# Altium footprint library OpBots.PcbLib: 39 footprints (part 1 of 3)
Each footprint in its own frame and in the unit in brackets; x right, y up, seen from the top. Pads: shape width x height; smd on the part's side, far side on the other; paste and mask are expansions set on the pad; w line width, h text height; cw(c..) or ccw(c..) is an arc to the next point about the centre after c.
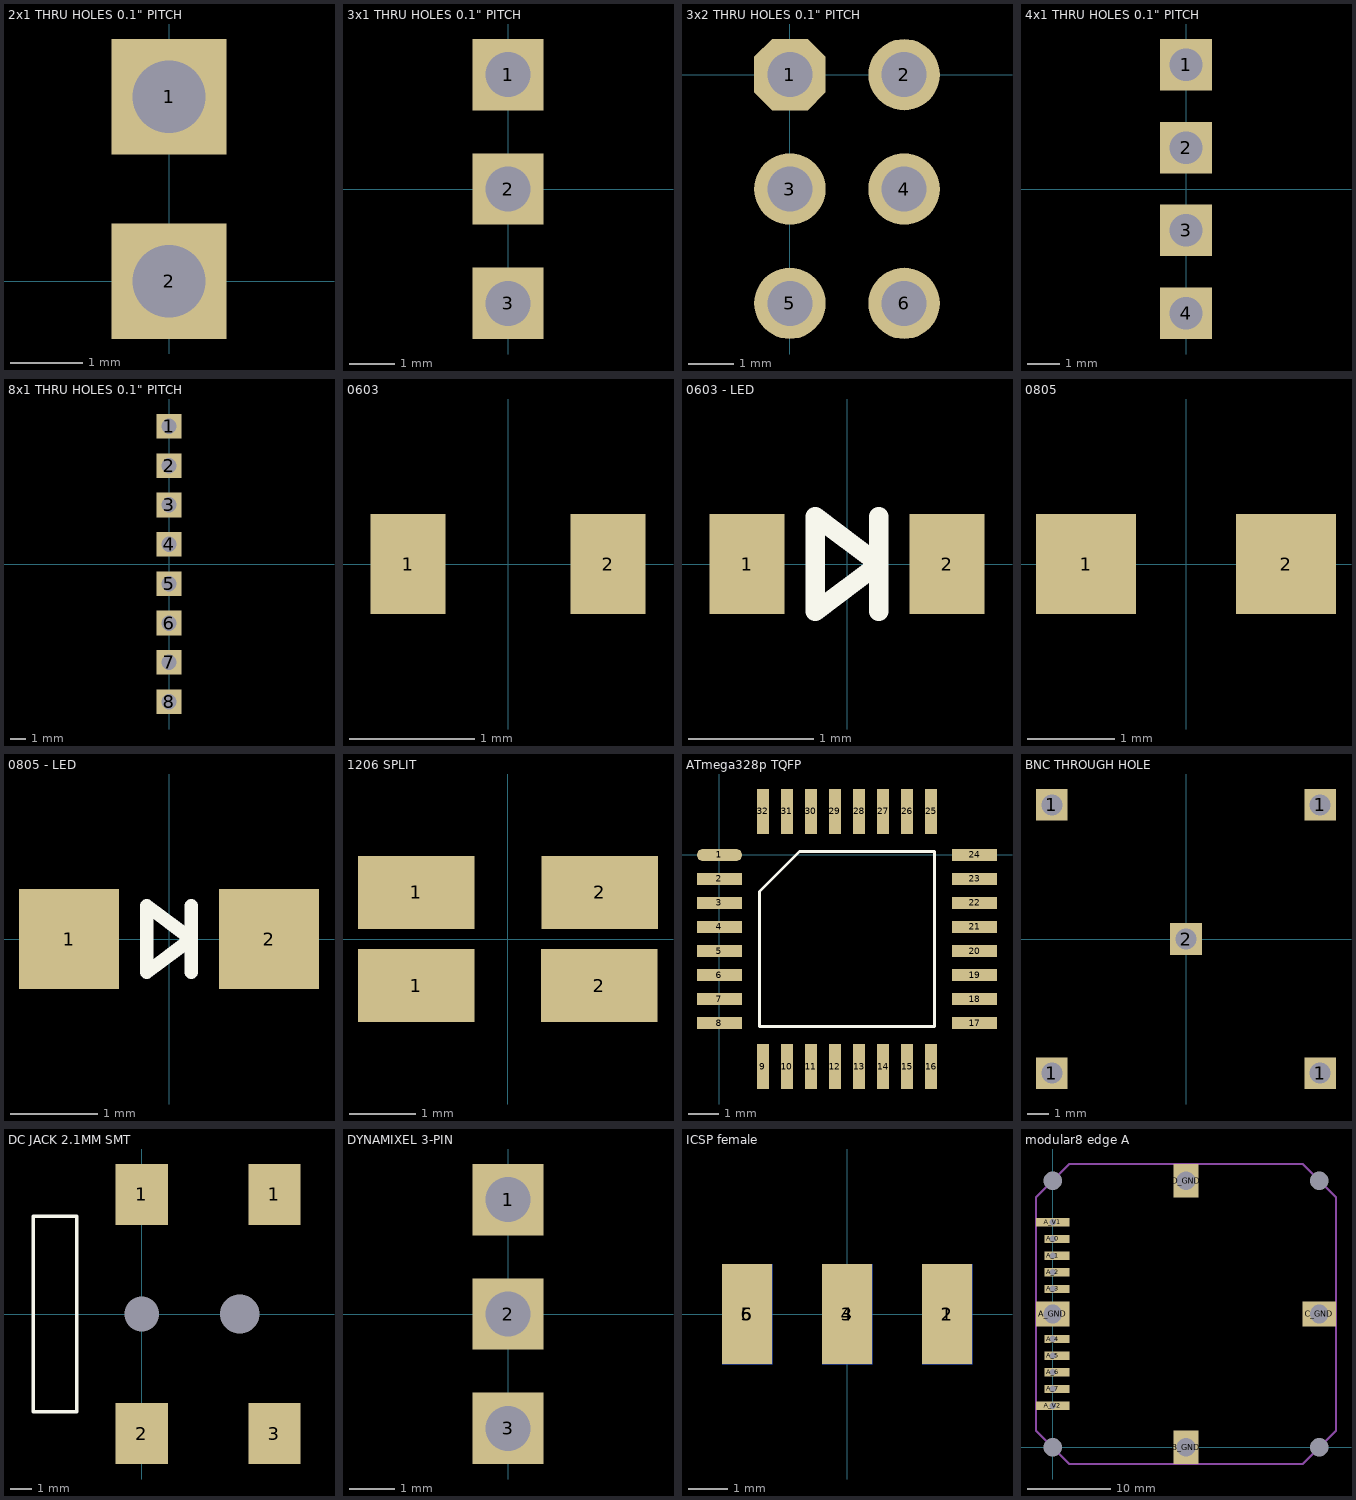
[diagram p0: the footprints below, top view; thin cyan lines are the x and y axes]

## 2x1 THRU HOLES 0.1" PITCH [mil]
pads (2):
  rect 62.5x62.5 hole 39.37: 1(0,100) 2(0,0)

## 3x1 THRU HOLES 0.1" PITCH [mil]
pads (3):
  rect 62.5x62.5 hole 39.37: 1(0,100) 2(0,0) 3(0,-100)

## 3x2 THRU HOLES 0.1" PITCH [mil]
pads (6):
  oct 62.5x62.5 hole 39.37: 1(0,0)
  round 62.5 hole 39.37: 2(100,0) 3(0,-100) 4(100,-100) 5(0,-200) 6(100,-200)

## 4x1 THRU HOLES 0.1" PITCH [mil]
pads (4):
  rect 62.5x62.5 hole 39.37 unplated: 1(0,150) 2(0,50) 3(0,-50) 4(0,-150)

## 8x1 THRU HOLES 0.1" PITCH [mil]
pads (8):
  rect 62.5x62.5 hole 39.37: 1(0,350) 2(0,250) 3(0,150) 4(0,50) 5(0,-50) 6(0,-150) 7(0,-250) 8(0,-350)

## 0603 [mm]
height 0.011
pads (2):
  rect 0.6x0.8 smd: 1(-0.8,0) 2(0.8,0)
3D body: height 0.01, standoff 0, extent -1.202,-0.502 1.202,0.502

## 0603 - LED [mm]
height 0.011
pads (2):
  rect 0.6x0.8 smd: 1(-0.8,0) 2(0.8,0)
Top Overlay:
  lines w0.152: 0.254,-0.381 0.254,0.381 ; -0.254,-0.381 -0.254,0.381 0.254,0 -0.254,-0.381
3D body: height 0.01, standoff 0, extent -1.202,-0.502 1.202,0.502

## 0805 [mil]
height 0.45
pads (2):
  rect 45x45 smd: 1(-45,0) 2(45,0)
3D body: height 0.45, standoff 0, extent -71.5,-26.5 71.5,26.5

## 0805 - LED [mil]
height 0.45
pads (2):
  rect 45x45 smd: 1(-45,0) 2(45,0)
Top Overlay:
  lines w6: 10,-15 10,15 ; -10,-15 10,0 -10,15 -10,-15
3D body: height 0.45, standoff 0, extent -71.5,-26.5 71.5,26.5

## 1206 SPLIT [mm]
pads (4):
  rect 1.75x1.1 smd: 1(-1.375,-0.7) 1(-1.375,0.701) 2(1.375,-0.7) 2(1.386,0.701)
3D body: height 0, standoff 0, extent -2.352,-1.352 2.363,1.353

## ATmega328p TQFP [mm]
pads (32):
  oval 1.5x0.4 smd: 1(0,0)
  rect 1.5x0.4 smd: 2(0,-0.8) 3(0,-1.6) 4(0,-2.4) 5(0,-3.2) 6(0,-4) 7(0,-4.8) 8(0,-5.6) 17(8.5,-5.6) 18(8.5,-4.8) 19(8.5,-4) 20(8.5,-3.2) 21(8.5,-2.4) 22(8.5,-1.6) 23(8.5,-0.8) 24(8.5,0)
  rect 0.4x1.5 smd: 9(1.45,-7.05) 10(2.25,-7.05) 11(3.05,-7.05) 12(3.85,-7.05) 13(4.65,-7.05) 14(5.45,-7.05) 15(6.25,-7.05) 16(7.05,-7.05) 25(7.05,1.45) 26(6.25,1.45) 27(5.45,1.45) 28(4.65,1.45) 29(3.85,1.45) 30(3.05,1.45) 31(2.25,1.45) 32(1.45,1.45)
Top Overlay:
  lines w0.1: 1.335,-5.715 1.335,-1.22 2.67,0.115 7.165,0.115 7.165,-5.715 1.335,-5.715
3D body: height 0, standoff 0, extent 1.285,-5.765 7.215,0.165

## BNC THROUGH HOLE [mm]
height 12.7
pads (5):
  rect 1.5x1.5 hole 1 unplated: 1(-6.35,-6.35) 1(-6.35,6.35) 1(6.35,-6.35) 1(6.35,6.35) 2(0,0)
3D body: height 12.7, standoff 0, extent -8.928,-8.928 8.928,8.928

## DC JACK 2.1MM SMT [mm]
pads (6):
  rect 2.4x2.8 smd: 1(0,5.5) 1(6.1,5.5) 2(0,-5.5) 3(6.1,-5.5)
  rect 0x0 hole 1.6 unplated: 999(0,0)
  rect 0x0 hole 1.803 unplated: 999(4.5,0)
Top Overlay:
  lines w0.152: -5,-4.5 -5,4.5 -3,4.5 -3,-4.5 -5,-4.5
3D body: height 0, standoff 0, extent -5.076,-4.576 9.876,4.576
3D body: height 0, standoff 0, extent -1.302,-7.002 7.402,7.002

## DYNAMIXEL 3-PIN [mil]
pads (3):
  rect 62.5x62.5 hole 39.37 unplated: 1(0,100) 2(0,0) 3(0,-100)
3D body: height 0, standoff 0, extent -100.02,-165.02 75.02,160.02

## ICSP female [mm]
pads (6):
  rect 1.27x2.54 smd: 1(2.54,0) 3(0,0) 5(-2.54,0)
  rect 1.27x2.54 smd far side: 2(2.54,0) 4(0,0) 6(-2.54,0)

## modular8 edge A [mm]
pads (18):
  rect 0x0 hole 2.25 unplated copper offset 0.5,0: 999(0,0) 999(0,32) 999(31.976,32) 999(32,0)
  rect 3x1 hole 0.8 copper offset 0.5,0: A_0(0,25) A_1(0,23) A_2(0,21) A_3(0,19) A_4(0,13) A_5(0,11) A_6(0,9) A_7(0,7)
  rect 4x3 hole 2.25: A_GND(0,16) C_GND(32,16)
  rect 4x1 hole 0.8: A_V1(0,27) A_V2(0,5)
  rect 3x4 hole 2.25: B_GND(16,0) D_GND(16,32)
Top Solder:
  rectangle: 2,30 30,34
  rectangle: 30,2 34,34
  rectangle: -2,-2 34,2
  rectangle: -2,2 2,34
Bottom Solder:
  rectangle: -2,2 2,30
  rectangle: -2,30 30,34
  rectangle: 30,2 34,34
  rectangle: -2,-2 34,2
Mechanical 1:
  lines w0.254: -2,2 -2,30 2,34 30,34 34,30 34,2 30,-2 2,-2 -2,2
3D body: height 0, standoff 0, extent -2.001,-2.001 34.001,34.001